# Altium footprint library VDMX10X0.PcbLib: 1 footprints
Each footprint in its own frame and in the unit in brackets; x right, y up, seen from the top. Pads: shape width x height; smd on the part's side, far side on the other; paste and mask are expansions set on the pad; w line width, h text height; cw(c..) or ccw(c..) is an arc to the next point about the centre after c.
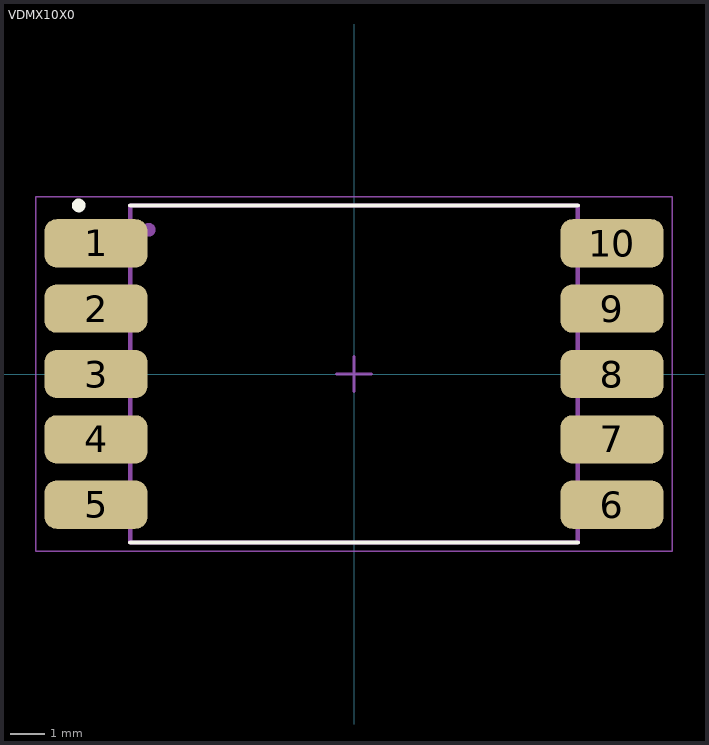
[diagram p0: the footprint, top view; thin cyan lines are the x and y axes]

## VDMX10X0 [mm]
pads (10):
  rrect50% 3x1.4 smd: 1(-7.5,3.8) 2(-7.5,1.9) 3(-7.5,0) 4(-7.5,-1.9) 5(-7.5,-3.8) 6(7.5,-3.8) 7(7.5,-1.9) 8(7.5,0) 9(7.5,1.9) 10(7.5,3.8)
Top Overlay:
  circle w0.2: c-8.001,4.9 r0.1
  lines w0.127: -6.5,-4.9 6.5,-4.9 ; -6.5,4.9 6.5,4.9
Top Assembly:
  circle w0.2: c-5.969,4.191 r0.1
  circle w0.2: c-5.969,4.191 r0.1
  lines w0.127: -6.5,-4.9 -6.5,4.9 ; -6.5,-4.9 6.5,-4.9 ; -6.5,-4.9 -6.5,4.9 ; -6.5,-4.9 6.5,-4.9 ; -6.5,4.9 6.5,4.9 ; -6.5,4.9 6.5,4.9 ; 6.5,-4.9 6.5,4.9 ; 6.5,-4.9 6.5,4.9
Top Courtyard:
  lines w0.05: -9.25,-5.15 9.25,-5.15 9.25,5.15 -9.25,5.15 -9.25,-5.15
  lines w0.1: -0.508,0 0.508,0 ; 0,-0.508 0,0.508
3D body "VDMG10A0.SLDPRT": height 3.75, standoff -0.01, extent -7.51,-4.56 7.51,4.56